# Altium schematic symbol library Schlib1.SchLib: 119 symbols
Pins are listed as number, name and electrical type; pins without a type are passive.

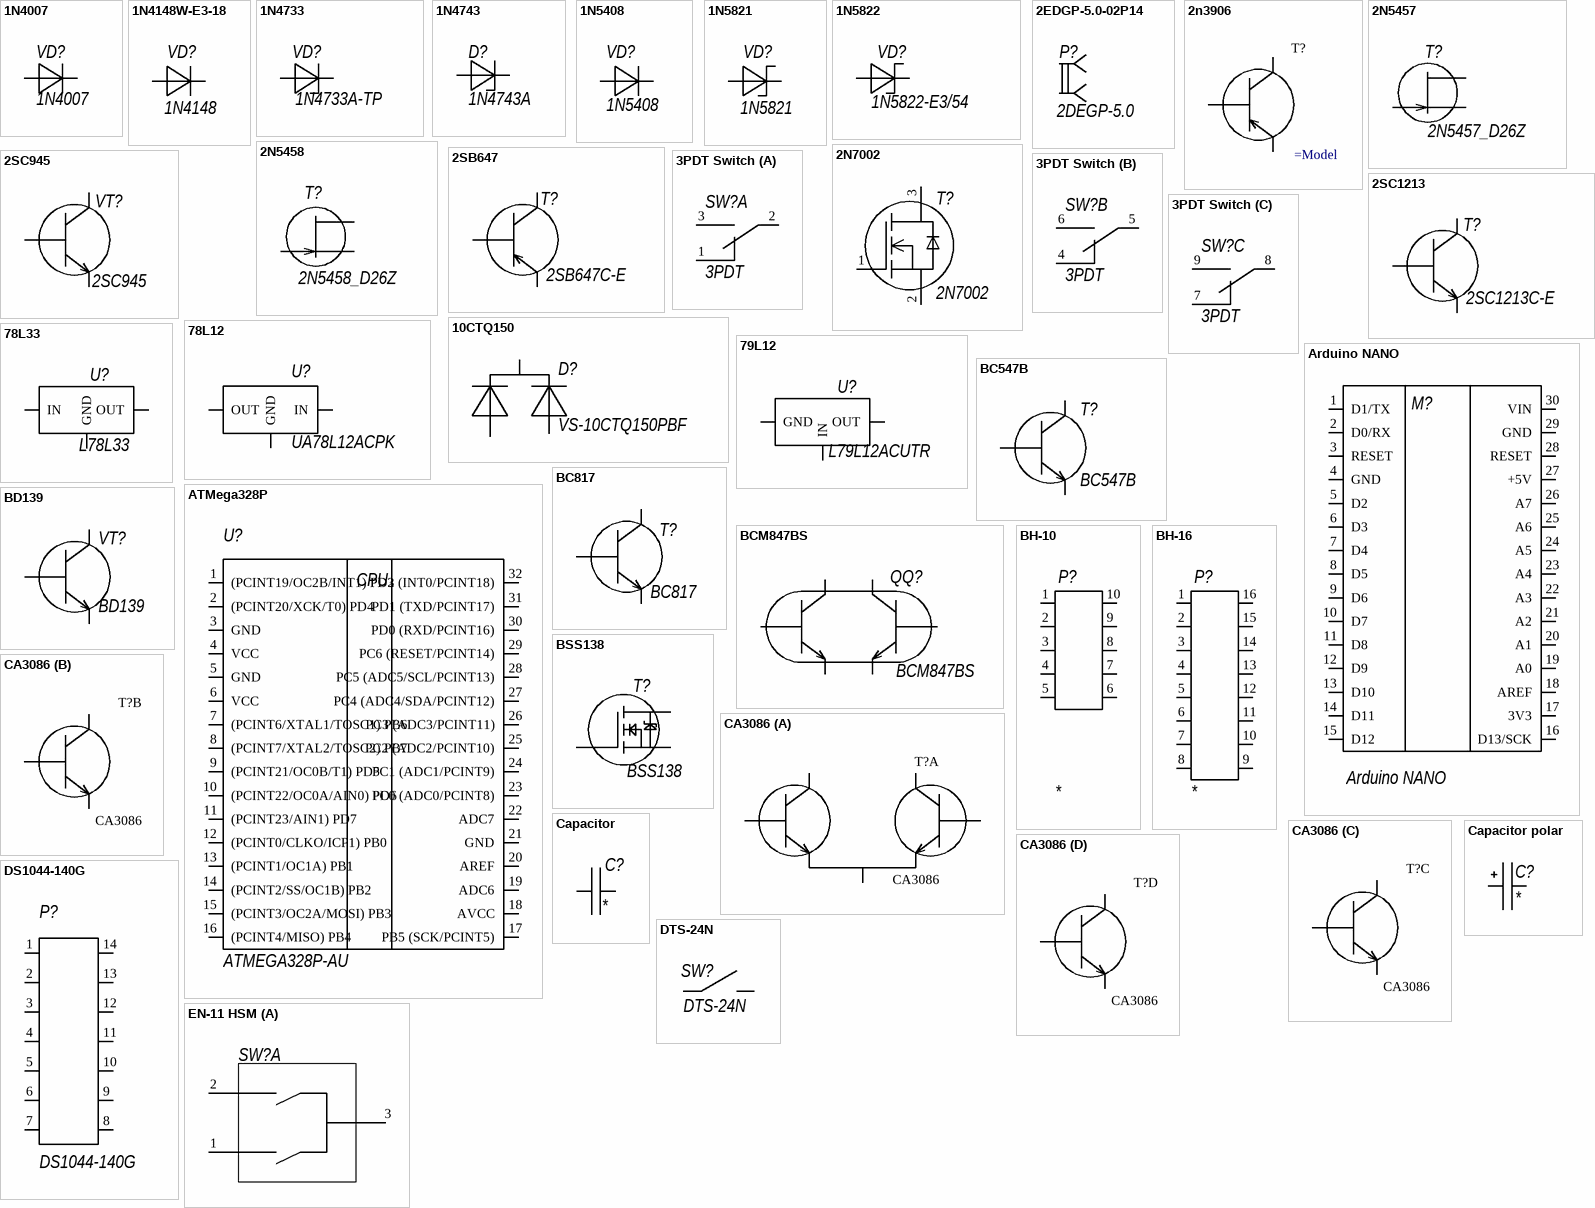
[diagram p0: symbols 1N4007 to EN-11 HSM]

## 1N4007
designator VD?
Diode Standard 1000V 1A Through Hole DO-41; Manufacturer: ON Semiconductor; Model: 1N4007; Case: DO41; HelpURL: https://www.digikey.com/product-detail/en/on-semiconductor/1N4007/1N4007FSCT-ND/965481
footprint DO-41G
pins: 1, 2

## 1N4148W-E3-18
designator VD?, comment 1N4148
DIODE GEN PURP 75V 150MA; Manufacturer: Vishay Semiconductor Diodes Division; HelpURL: https://www.digikey.com/product-detail/en/vishay-semiconductor-diodes-division/1N4148W-E3-18/1N4148W-E3-18TR-ND/3104163; Model: 1N4148; Case: SOD123
footprint SOD-123
pins: 1, 2

## 1N4733
designator VD?, comment 1N4733A-TP
Zener Diode 5.1V 1W ±5% Through Hole DO-41G; Manufacturer: Micro Commercial Co; Model: 1N4733A-TP; Case: DO41G; HelpURL: https://www.digikey.com/product-detail/en/micro-commercial-co/1N4733A-TP/1N4733A-TPTR-ND/950311
footprint DO-41G
pins: 1, 2

## 1N4743
designator D?, comment 1N4743A
Zener Diode 13V 1W ±5% Through Hole DO-41; Manufacturer: ON Semiconductor; HelpURL: https://www.digikey.com/product-detail/en/on-semiconductor/1N4743A/1N4743A-ND/977262; Case: DO41; Model: 1N4743A
footprint DO-41G
pins: 1, 2

## 1N5408
designator VD?
Diode Standard 1000V 3A Through Hole DO-201AD; Manufacturer: ON Semiconductor; HelpURL: https://www.digikey.com/product-detail/en/on-semiconductor/1N5408/1N5408FSTR-ND/976698; Model: 1N5408; Case: DO201AD
footprint DO-201
pins: 1, 2

## 1N5821
designator VD?
DIODE SCHOTTKY 30V 3A DO201AD; Manufacturer: STMicroelectronics; HelpURL: https://www.digikey.com/product-detail/en/stmicroelectronics/1N5821/1N5821ST-ND/1037330; Model: 1N5821; Case: DO201AD
footprint DO-201
pins: 1, 2

## 1N5822
designator VD?, comment 1N5822-E3/54
Diode Schottky 40V 3A Through Hole DO-201AD; Manuacturer: Vishay Semiconductor Diodes Division; HelpURL: https://www.digikey.com/product-detail/en/vishay-semiconductor-diodes-division/1N5822-E3-54/1N5822-E3-54GITR-ND/1023526; Case: 201AD; Model: 1N5822-E3/54
footprint DO-201
pins: 1, 2

## 2EDGP-5.0-02P14
designator P?, comment 2DEGP-5.0
Connector; Model: 2DEGP-5.0
footprint 2EDGP-5.0-02P14
footprint DG128-5.08-02P-14
pins: 1, 2

## 2n3906
designator T?
General purpose PNP transistor.
footprint TO-92
pins: 1 C, 2 B, 3 E

## 2N5457
designator T?, comment 2N5457_D26Z
JFET N-CH 25V 625MW TO92; Manufacturer: ON Semiconductor; Case: TO-92-3; HelpURL: https://www.digikey.com/product-detail/en/on-semiconductor/2N5457_D26Z/2N5457_D26Z-ND/979478; Model: 2N5457_D26Z
footprint TO-92
pins: 1 G "Gain", 2 S "Source", 3 D "Drain"

## 2N5458
designator T?, comment 2N5458_D26Z
JFET N-CH 25V 625MW TO92; Manufacturer: ON Semiconductor; Case: TO-92-3; Model: 2N5458_D26Z; HelpURL: https://www.digikey.com/product-detail/en/on-semiconductor/2N5458_D26Z/2N5458_D26Z-ND/979724
footprint TO-92
pins: 1 G "Gain", 2 S "Source", 3 D "Drain"

## 2N7002
designator T?
N-Channel 60V 115mA (Ta) 200mW (Ta) Surface Mount SOT-23 (TO-236AB); Manufacturer: ON Semiconductor; Case: SOT-23; HelpURL: https://www.digikey.com/product-detail/en/on-semiconductor/2N7002/2N7002NCT-ND/244664; Model: 2N7002
footprint SOT-23
pins: 1 G (power), 2 S, 3 D

## 2SB647
designator T?, comment 2SB647C-E
Bipolar (BJT) Transistor PNP; Manufacturer: Renesas Electronics America Inc.; Case: TO-92; Model: 2SB647C-E; HelpURL: https://www.digikey.com/product-detail/en/rochester-electronics-llc/2SB647C-E/2156-2SB647C-E-ND/12117509
footprint TO-92; pin to pad 1>3 2>1 3>2
pins: 1 C, 2 B, 3 E

## 2SC945
designator VT?
Bipolar (BJT) Transistor NPN; Manufacturer: Rochester Electronics, LLC; HelpURL: https://www.digikey.com/product-detail/en/rochester-electronics-llc/2SC945A-0-T-A/2156-2SC945A-0-T-A-ND/12115680; Model: 2SC945; Case: TO-92
footprint TO-92
pins: 1 C, 2 B, 3 E

## 2SC1213
designator T?, comment 2SC1213C-E
Bipolar (BJT) Transistor NPN; Manufacturer: Renesas Electronics America Inc.; HelpURL: https://www.digikey.com/product-detail/en/rochester-electronics-llc/2SC1213C-E/2156-2SC1213C-E-ND/12606633; Model: 2SC1213C-E; Case: TO-92
footprint TO-92; pin to pad 1>3 2>1 3>2
pins: 1 E, 2 B, 3 C

## 3PDT Switch
designator SW?, comment 3PDT
SWITCH PUSHBUTTON 3PDT 1A 9V; HelpURL: *; Manufacturer: *; Case: *; Model: 3PDT
footprint 3PDT
part A pins: 1, 2, 3
part B pins: 4, 5, 6
part C pins: 7, 8, 9

## 10CTQ150
designator D?, comment VS-10CTQ150PBF
Diode Array 1 Pair Common Cathode Schottky 150V 5A Through Hole TO-220-3; Manufacturer: Vishay Semiconductor Diodes Division; HelpURL: https://www.digikey.com/product-detail/en/vishay-semiconductor-diodes-division/VS-10CTQ150PBF/10CTQ150PBF-ND/811749; Model: VS-10CTQ150PBF; Case: TO220
footprint TO-220-L
footprint TO-220
pins: 1, 2, 3

## 78L12
designator U?, comment UA78L12ACPK
Linear Voltage Regulator IC Positive Fixed 1 Output 12V 100mA SOT-89-3; Manufacturer: Texas Instruments; HelpURL: https://www.digikey.com/product-detail/en/texas-instruments/UA78L12ACPK/296-11132-2-ND/382178; Model: UA78L12ACPK; Case: SOT89-3
footprint SOT89
pins: 1 IN, 2 GND, 3 OUT

## 78L33
designator U?, comment L78L33
Manufacturer: STMicroelectronics; Case: SOT-89-3; Model: L78L33; HelpURL: https://www.digikey.com/product-detail/en/stmicroelectronics/L78L33ACUTR/497-1200-2-ND/585724
footprint SOT89
pins: 1 IN, 2 GND, 3 OUT

## 79L12
designator U?, comment L79L12ACUTR
Linear Voltage Regulator IC Negative Fixed 1 Output -12V 100mA SOT-89-3; Manufacturer: STMicroelectronics; HelpURL: https://www.digikey.com/product-detail/en/stmicroelectronics/L79L12ACUTR/497-7301-2-ND/1852231; Case: SOT89-3; Model: L79L12ACUTR
footprint SOT89
pins: 1 OUT, 2 IN, 3 GND

## Arduino NANO
designator M?
Model: Arduino NANO
footprint ARDUINO NANO
pins: 1 D1/TX, 2 D0/RX, 3 RESET, 4 GND, 5 D2, 6 D3, 7 D4, 8 D5, 9 D6, 10 D7, 11 D8, 12 D9, 13 D10, 14 D11, 15 D12, 16 D13/SCK, 17 3V3, 18 AREF, 19 A0, 20 A1, 21 A2, 22 A3, 23 A4, 24 A5, 25 A6, 26 A7, 27 +5V, 28 RESET, 29 GND, 30 VIN

## ATMega328P
designator U?, comment ATMEGA328P-AU
IC MCU 8BIT 32KB FLASH 32TQFP; Manufacturer: Microchip Technology; Case: 32-TQFP; HelpURL: https://www.digikey.com/product-detail/en/microchip-technology/ATMEGA328P-AU/ATMEGA328P-AU-ND/1832260; Model: ATMEGA328P-AU
footprint 32-TQFP
pins: 1 (PCINT19/OC2B/INT1) PD3, 2 (PCINT20/XCK/T0) PD4, 3 GND, 4 VCC, 5 GND, 6 VCC, 7 (PCINT6/XTAL1/TOSC1) PB6, 8 (PCINT7/XTAL2/TOSC2) PB7, 9 (PCINT21/OC0B/T1) PD5, 10 (PCINT22/OC0A/AIN0) PD6, 11 (PCINT23/AIN1) PD7, 12 (PCINT0/CLKO/ICP1) PB0, 13 (PCINT1/OC1A) PB1, 14 (PCINT2/SS/OC1B) PB2, 15 (PCINT3/OC2A/MOSI) PB3, 16 (PCINT4/MISO) PB4, 17 PB5 (SCK/PCINT5), 18 AVCC, 19 ADC6, 20 AREF, 21 GND, 22 ADC7, 23 PC0 (ADC0/PCINT8), 24 PC1 (ADC1/PCINT9), 25 PC2 (ADC2/PCINT10), 26 PC3 (ADC3/PCINT11), 27 PC4 (ADC4/SDA/PCINT12), 28 PC5 (ADC5/SCL/PCINT13), 29 PC6 (RESET/PCINT14), 30 PD0 (RXD/PCINT16), 31 PD1 (TXD/PCINT17), 32 PD2 (INT0/PCINT18)
text: CPU

## BC547B
designator T?
Manufacturer: ON Semiconductor; Model: BC547B; HelpURL: https://www.digikey.com/product-detail/en/on-semiconductor/BC547B/BC547BFS-ND/976366; Case: TO-92
footprint TO-92
pins: 1 E, 2 B, 3 C

## BC817
designator T?
Bipolar (BJT) Transistor NPN 45V 500mA 100MHz 300mW Surface Mount SOT-23-3 (TO-236); Manufacturer: ON Semiconductor; Model: BC817; Case: SOT23; HelpURL: https://www.digikey.com/product-detail/en/on-semiconductor/BC817-25LT1G/BC817-25LT1GOSCT-ND/917829
footprint SOT-23; pin to pad B>1 C>3 E>2
pins: B, C, E

## BCM847BS
designator QQ?
Bipolar (BJT) Transistor Array 2 NPN (Dual) Matched Pair 45V 100mA 250MHz 300mW Surface Mount 6-TSSOP; Manufacturer: Nexperia USA Inc.; Model: BCM847BS; Case: 6TSSOP; HelpURL: https://www.digikey.com/product-detail/en/nexperia-usa-inc/BCM847BS-135/1727-5456-2-ND/1232376
footprint 6TSSOP
pins: 1, 2, 3, 4, 5, 6

## BD139
designator VT?
Bipolar (BJT) Transistor NPN 80V 1.5A 1.25W Through Hole SOT-32-3; Manufacturer: STMicroelectronics; HelpURL: https://www.digikey.com/product-detail/en/stmicroelectronics/BD139/497-6656-5-ND/1037682; Model: BD139; Case: SOT-32
footprint TO-126 (SOT-32); pin to pad 1>2 2>3 3>1
pins: 1 C, 2 B, 3 E

## BH-10
designator P?
Model: BH-16; HelpURL: *; Manufacturer: *
footprint BH-10
pins: 1, 2, 3, 4, 5, 6, 7, 8, 9, 10

## BH-16
designator P?
Model: BH-16; HelpURL: *; Manufacturer: *
footprint BH-16
pins: 1, 2, 3, 4, 5, 6, 7, 8, 9, 10, 11, 12, 13, 14, 15, 16

## BSS138
designator T?
N-Channel 50V 220mA (Ta) 360mW (Ta) Surface Mount SOT-23-3; Manufacturer: ON Semiconductor; Case: SOT-23; HelpURL: https://www.digikey.com/product-detail/en/on-semiconductor/BSS138/BSS138CT-ND/244294; Model: BSS138
footprint SOT-23; pin to pad D>3 G>1 S>2
pins: D, G, S

## CA3086
designator T?
General Purpose NPN Transistor Array
footprint DIP-14
part A pins: 1 C, 2 B, 3, 4 B, 5 C
part B pins: 6 B, 7 E, 8 C
part C pins: 9 B, 10 E, 11 C
part D pins: 12 B, 13 E, 14 C

## Capacitor
designator C?
Model: *; Case: *; HelpURL: *; Manufacturer: *; Value: *
footprint CAP DISK 5mm
footprint CAP FILM 15mm
footprint CAP FILM 5MM
footprint CAP FILM 10mm
footprint C1206
footprint CAP FILM 2.5mm
footprint C0805
footprint CAP Y DISK 10mm
footprint CAP FILM X2 15mm
footprint CAP FILM X2 15mm 2
footprint CAP FILM 22.5
pins: 1, 2

## Capacitor polar
designator C?
Case: *; HelpURL: *; MAnufacturer: *; Model: *; Value: *
footprint CAP POLAR AL 2.5mm
footprint cap polar al hor 2.5mm
footprint CAP POLAR SMD 4.0
footprint CAP POLAR SMD 6.3
footprint CAP POLAR SMD 8
footprint CAP POLAR AL 5MM
footprint Tantalum C
footprint CAP POLAR AL 18x25; pin to pad 2>1
pins: 1, 2

## DS1044-140G
designator P?
Model: DS1044-140G
footprint ZIF14
pins: 1, 2, 3, 4, 5, 6, 7, 8, 9, 10, 11, 12, 13, 14

## DTS-24N
designator SW?
12 x 12mm size pcb mounting tactile switche; Model: DTS-24N
footprint DTS-24N; pin to pad 1>1+2 2>3+4
pins: 1, 2

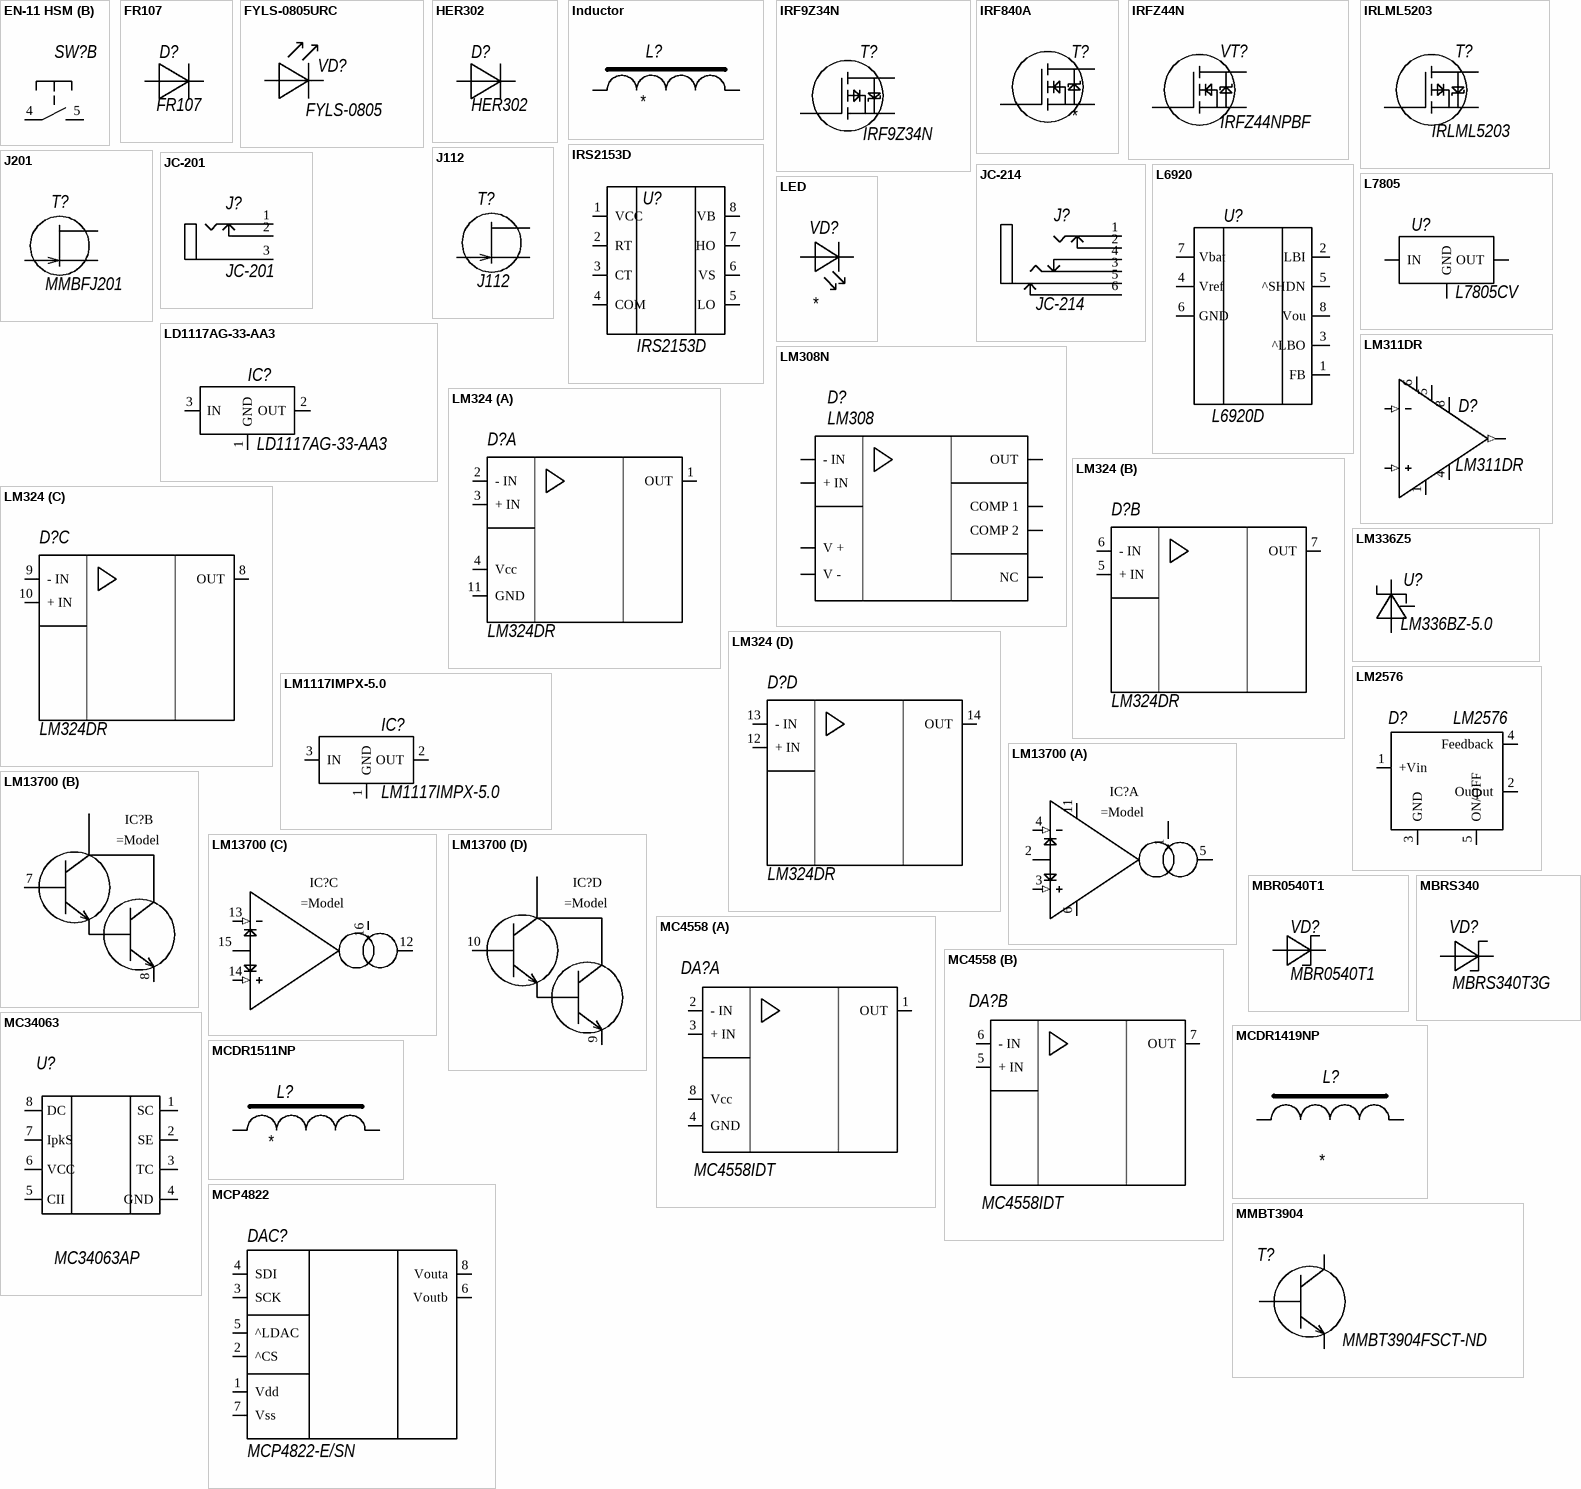
[diagram p1: symbols EN-11 HSM to MMBT3904]

## EN-11 HSM
designator SW?  (value not drawn)
Rotary Encoder; Manufacturer: TT Electronics/BI; Model: EN-11HSM7E; HelpURL: https://www.digikey.com/en/product-highlight/t/tt-electronics-bi/model-en11-encoder
footprint EN-11 HSM
part A pins: 1 A, 2 C, 3 B
part B pins: 4, 5

## FR107
designator D?
Diode Standard 1000V 1A Through Hole DO-41; Manufacturer: Micro Commercial Co; HelpURL: https://www.digikey.com/product-detail/en/micro-commercial-co/FR107GP-TP/FR107GP-TP-ND/8018604; Case: DO-41; Model: FR107
footprint DO-41G
pins: 1, 2

## FYLS-0805URC
designator VD?, comment FYLS-0805
LED SMD; Model: FYLS-0805
footprint LED_SMD-0805
pins: 1, 2

## HER302
designator D?
Diode Standard 100V 3A Through Hole DO-201AD; Manufacturer: Taiwan Semiconductor Corporation; HelpURL: https://www.digikey.com/product-detail/en/taiwan-semiconductor-corporation/HER302G-R0G/HER302GR0G-ND/7366823; Case: DO201AD; Model: HER302
footprint DO-201
footprint do-201-vert
footprint DO-201-vert-inv
pins: 1, 2

## Inductor
designator L?
Value: *
footprint CDRH127
footprint CDRH104
footprint MCD855C
pins: 1, 2

## IRF9Z34N
designator T?
P-Channel 55V 19A (Tc) 68W (Tc) Through Hole TO-220AB; Manufacturer: Infineon Technologies; HelpURL: https://www.digikey.com/product-detail/en/infineon-technologies/IRF9Z34NPBF/IRF9Z34NPBF-ND/811960; Case: TO-220AB; Model: IRF9Z34N
footprint TO-220-L; pin to pad D>2 G>1 S>3
pins: D, G, S

## IRF840A
designator T?
N-Channel 500V 8A (Tc) 125W (Tc) Through Hole TO-220AB; Manufacturer: Vishay Siliconix; Model: IRF840A; HelpURL: https://www.digikey.com/product-detail/en/vishay-siliconix/IRF840A/IRF840A-ND/352313; Case: TO-220AB
footprint TO-220
footprint TO-220-L
pins: 1 G, 2 D, 3 S

## IRFZ44N
designator VT?, comment IRFZ44NPBF
N-Channel 55V 49A (Tc) 94W (Tc) Through Hole TO-220AB; Manufacturer: Infineon Technologies; HelpURL: https://www.digikey.com/product-detail/en/infineon-technologies/IRFZ44NPBF/IRFZ44NPBF-ND/811772; Model: IRFZ44NPBF; Case: TO-220AB
footprint TO-220-L
pins: 1 G, 2 D, 3 S

## IRLML5203
designator T?
P-Channel 30V 3A (Ta) 1.25W (Ta) Surface Mount Micro3™/SOT-23; Manufacturer: Infineon Technologies; Model: IRLML5203; Case: SOT-23; HelpURL: https://www.digikey.com/product-detail/en/infineon-technologies/IRLML5203/IRLML5203-ND/359267
footprint SOT-23; pin to pad D>3 G>1 S>2
pins: D, G, S

## IRS2153D
designator U?
Half-Bridge Gate Driver IC RC Input Circuit 8-PDIP; Manufacturer: Infineon Technologies; HelpURL: https://www.digikey.com/product-detail/en/infineon-technologies/IRS2153DPBF/IRS2153DPBF-ND/1928046; Model: IRS2153D; Case: 8DIP
footprint DIP-8
pins: 1 VCC, 2 RT, 3 CT, 4 COM, 5 LO, 6 VS, 7 HO, 8 VB

## J112
designator T?
Manufacturer: ON Semiconductor; HelpURL: https://www.digikey.com/product-detail/en/on-semiconductor/J112/J112FS-ND/1048969; Case: TO92; Model: J112
footprint TO-92
pins: 1 G "Gain", 2 S "Source", 3 D "Drain"

## J201
designator T?, comment MMBFJ201
Manufacturer: ON Semiconductor; Model: MMBFJ201; HelpURL: https://www.digikey.com/product-detail/en/on-semiconductor/MMBFJ201/MMBFJ201TR-ND/1049584; Case: SOT23
footprint SOT-23
pins: 1 D "Drain", 2 S "Source", 3 G "Gain"

## JC-201
designator J?
Model: JC-201
footprint JC-201
pins: 1, 2, 3

## JC-214
designator J?
Model: JC-214
footprint JC-214
pins: 1, 2, 3, 4, 5, 6

## L6920
designator U?, comment L6920D
Boost Switching Regulator IC Positive Adjustable (Fixed) 1.8V (3.3V, 5V) 1 Output 800mA (Switch) 8-TSSOP (0.173", 4.40mm Width); Manufacturer: STMicroelectronics; HelpURL: https://www.digikey.com/product-detail/en/stmicroelectronics/L6920D/497-19603-ND/1663412; Case: 8TSSOP; Model: L6920D
footprint MSOP8
pins: 1 FB, 2 LBI, 3 ^LBO, 4 Vref, 5 ^SHDN, 6 GND, 7 Vbat, 8 Vou

## L7805
designator U?, comment L7805CV
Linear Voltage Regulator IC  1 Output  1.5A TO-220; Manufacturer: STMicroelectronics; HelpURL: https://www.digikey.com/product-detail/en/stmicroelectronics/L7805CV-DG/497-12404-ND/2832888; Model: L7805CV; Case: TO220
footprint TO-220-L
pins: 1 IN, 2 GND, 3 OUT

## LD1117AG-33-AA3
designator IC?
IC REG LINEAR 3.3V 800MA SOT223; Manufacturer: STMicroelectronics; Model: LD1117AG-33-AA3; Case: SOT223; HelpURL: https://www.digikey.com/product-detail/en/stmicroelectronics/LD1117S33CTR/497-1241-2-ND/585765
footprint SOT-223
pins: 1 GND, 2 OUT, 3 IN

## LED
designator VD?
Model: *
footprint LED-5mm
pins: 1, 2

## LM308N
designator D?, comment LM308
Case: *; HelpURL: *; Manufaturer: *; Model: LM308
footprint DIP-8
pins: 1 COMP 1, 2 - IN, 3 + IN, 4 V -, 5 NC, 6 OUT, 7 V +, 8 COMP 2

## LM311DR
designator D?
IC DIFF COMP STROBE 8-SOIC; Manufacturer: Texas Instruments; Model: LM311DR; Case: 8-SOIC; HelpURL: https://www.digikey.com/product-detail/en/texas-instruments/LM311DR/296-1388-2-ND/381217
footprint SOIC-8
footprint DIP-8
pins: 1 GND, 2 IN+ (in), 3 IN- (in), 4 Vcc- (power), 5 BALANCE, 6 B/S, 7 OUT (out), 8 Vcc+ (power)

## LM324
designator D?, comment LM324DR
General Purpose Amplifier 4 Circuit  14-SOIC; Manufacturer: Texas Instruments; HelpURL: https://www.digikey.com/product-detail/en/texas-instruments/LM324DR/296-14597-2-ND/555719; Case: 14SOIC; Model: LM324DR
footprint SO-14
part A pins: 1 OUT, 2 - IN, 3 + IN, 4 Vcc, 11 GND
part B pins: 5 + IN, 6 - IN, 7 OUT
part C pins: 8 OUT, 9 - IN, 10 + IN
part D pins: 12 + IN, 13 - IN, 14 OUT

## LM336Z5
designator U?, comment LM336BZ-5.0
Shunt Voltage Reference IC ±2% TO-92-3; Manufacturer: Texas Instruments; Model: LM336BZ-5.0; HelpURL: https://www.digikey.com/product-detail/en/texas-instruments/LM336BZ-5-0-NOPB/LM336BZ-5-0-NOPB-ND/148167; Case: TO92-3
footprint TO-92 square silksreen
pins: 1, 2, 3

## LM1117IMPX-5.0
designator IC?
IC REG LINEAR 5V 800MA SOT223-4; Manufacturer: Texas Instruments; Case: SOT-223-4; HelpUIRL: https://www.digikey.com/product-detail/en/texas-instruments/LM1117MPX-5-0-NOPB/LM1117MPX-5-0-NOPBTR-ND/366734; Model: LM1117IMPX-5.0
footprint SOT-223
pins: 1 GND, 2 OUT, 3 IN

## LM2576
designator D?
Buck Switching Regulator IC Positive Adjustable 1.23V 1 Output 3A TO-220-5; Manufacturer: Texas Instruments; HelpURL: https://www.digikey.com/product-detail/en/texas-instruments/LM2576T-ADJ-NOPB/LM2576T-ADJNS-NOPB-ND/148128; Case: TO-220-5; Model: LM2576
footprint TO-220-5
pins: 1 +Vin, 2 Output, 3 GND, 4 Feedback, 5 ON/OFF

## LM13700
designator IC?
Dual Operational Transconductance Amplifiers / With Linearizing Diodes and Buffers
footprint DIP-16
part A pins: 1 Amp bias input (in), 2 Diode bias, 3 IN+ (in), 4 IN- (in), 5 OUT (out), 6 Vcc- (power), 11 Vcc+ (power)
part B pins: 7 Buffer input, 8 Buffer output
part C pins: 12 OUT (out), 13 IN- (in), 14 IN+ (in), 15 Diode bias, 16 Amp bias input (in)
part D pins: 9 Buffer OUT, 10 Buffer IN

## MBR0540T1
designator VD?
Diode Schottky 40V 500mA Surface Mount SOD-123; Manufacturer: ON Semiconductor; Case: SOD-123; HelpURL: https://www.digikey.com/product-detail/en/on-semiconductor/MBR0540T1G/MBR0540T1GOSTR-ND/918576; Model: MBR0540T1
footprint SOD-123
pins: 1, 2

## MBRS340
designator VD?, comment MBRS340T3G
Diode Schottky 40V 4A Surface Mount SMC; Manufacturer: ON Semiconductor; HelpURL: https://www.digikey.com/product-detail/en/on-semiconductor/MBRS340T3G/MBRS340T3GOSTR-ND/918645; Model: MBRS340T3G; Case: SMC (DO214AB)
footprint SMC (DO214AB)
pins: 1, 2

## MC4558
designator DA?, comment MC4558IDT
General Purpose Amplifier 2 Circuit  8-SO; Manufacturer: STMicroelectronics; Model: MC4558IDT; Case: SO8; HelpURL: https://www.digikey.com/product-detail/en/stmicroelectronics/MC4558IDT/497-1961-2-ND/599382
footprint SOIC-8
part A pins: 1 OUT, 2 - IN, 3 + IN, 4 GND, 8 Vcc
part B pins: 5 + IN, 6 - IN, 7 OUT

## MC34063
designator U?, comment MC34063AP
Manufacturer: Texas Instruments; HelpURL: https://www.digikey.com/product-detail/en/texas-instruments/MC34063AP/296-17766-5-ND/717432; Model: MC34063AP; Case: 8-DIP
footprint DIP-8
footprint SO-8
pins: 1 SC, 2 SE, 3 TC, 4 GND, 5 CII, 6 VCC, 7 IpkS, 8 DC

## MCDR1419NP
designator L?
Inductor; Value: *
footprint MCDR1419NP
pins: 1, 2

## MCDR1511NP
designator L?
Inductor; Value: 100uH
footprint MCDR1511NP
pins: 1, 2

## MCP4822
designator DAC?, comment MCP4822-E/SN
12 Bit Digital to Analog Converter 2 8-SOIC; Manufacturer: Microchip Technology; HelpURL: https://www.digikey.com/product-detail/en/microchip-technology/MCP4822-E-SN/MCP4822-E-SN-ND/951466; Case: 8SOIC; Model: MCP4822-E/SN
footprint SOIC-8
pins: 1 Vdd, 2 ^CS, 3 SCK, 4 SDI, 5 ^LDAC, 6 Voutb, 7 Vss, 8 Vouta

## MMBT3904
designator T?, comment MMBT3904FSCT-ND
Bipolar (BJT) Transistor NPN 40V 200mA 300MHz 350mW Surface Mount SOT-23-3; Manufacturer: ON Semiconductor; Model: MMBT3904FSCT-ND; Case: SOT-23-3; HelpURL: https://www.digikey.com/product-detail/en/on-semiconductor/MMBT3904/MMBT3904FSCT-ND/458971
footprint SOT-23
pins: 1, 2, 3

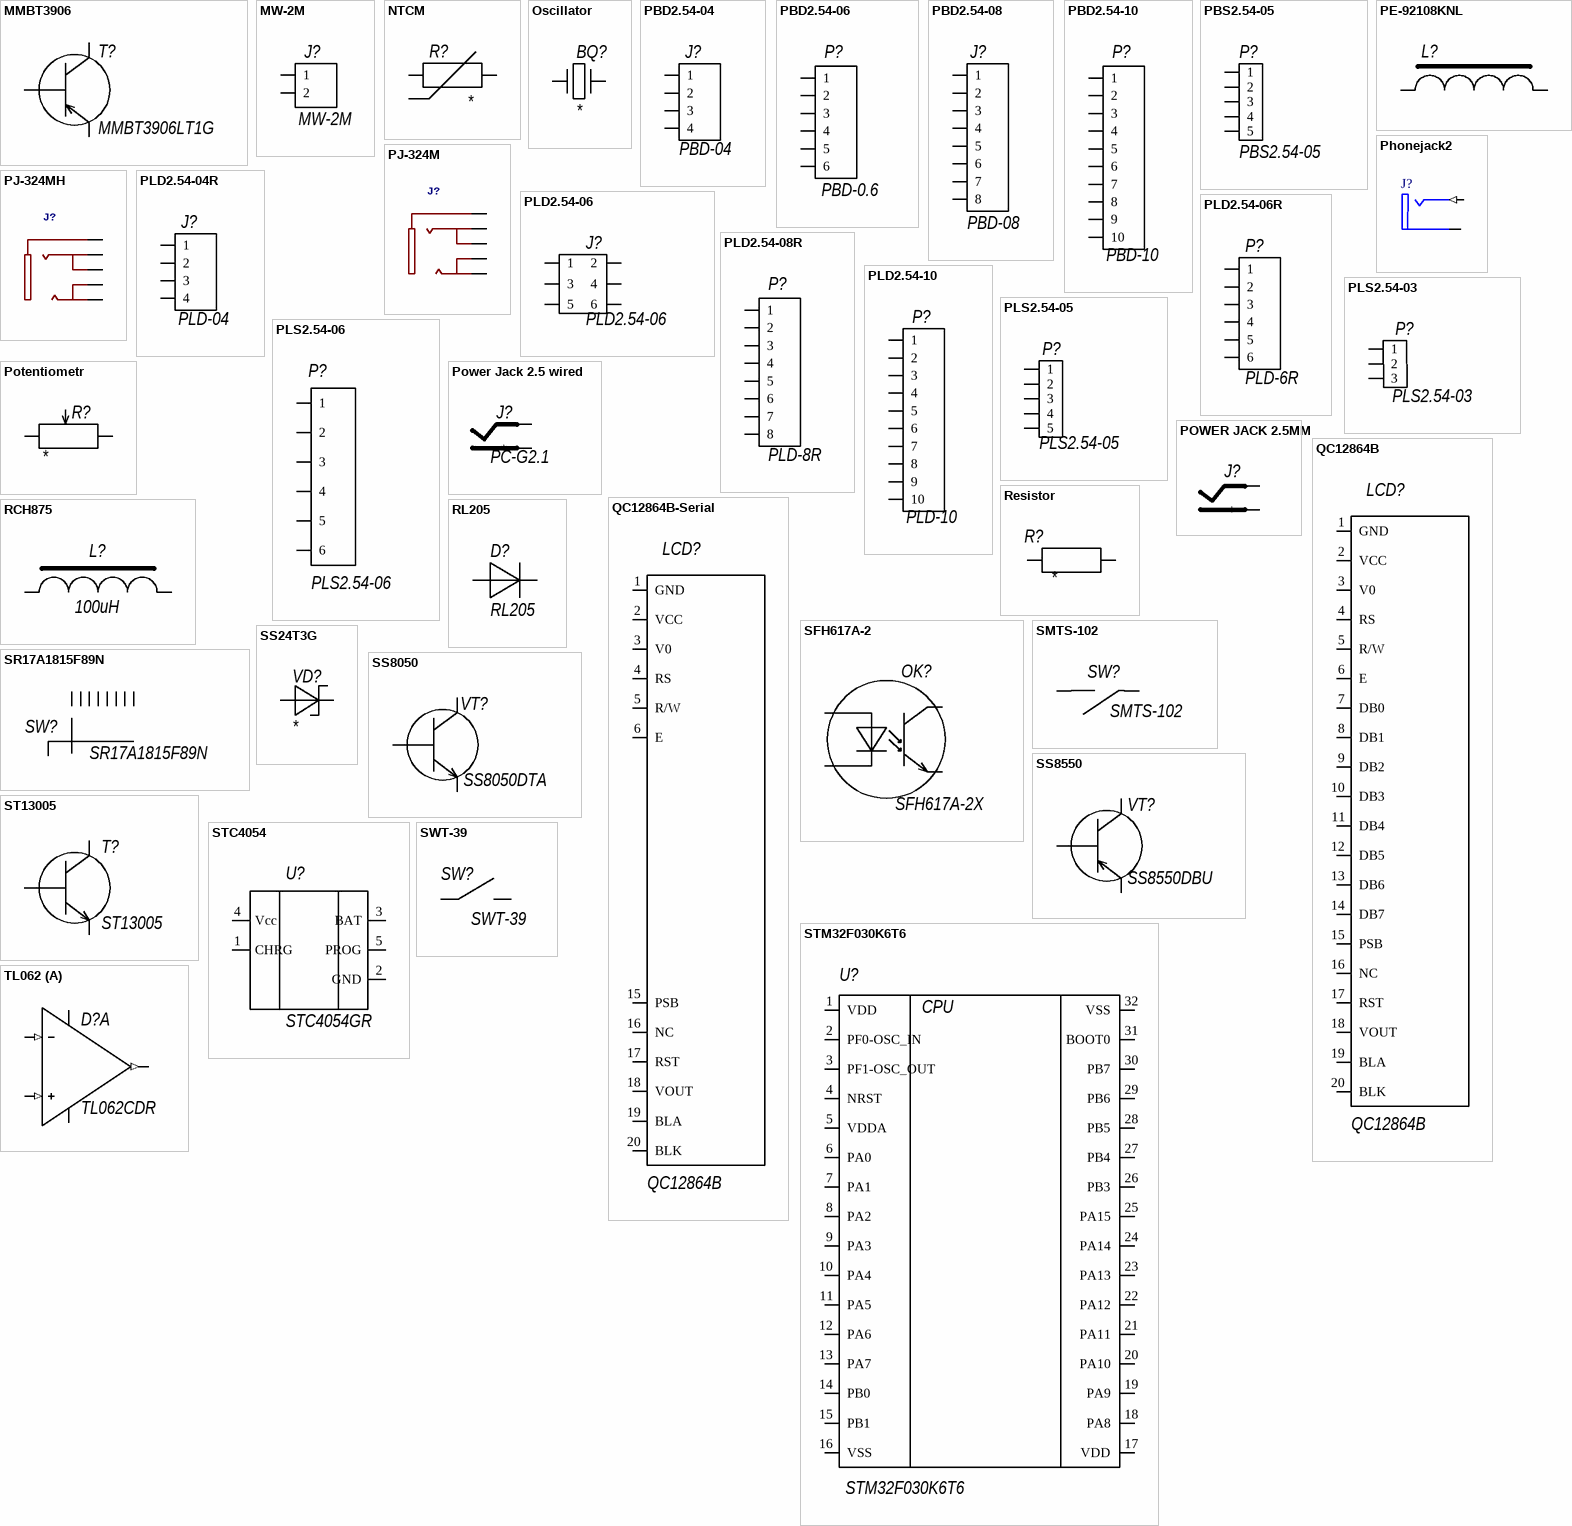
[diagram p2: symbols MMBT3906 to TL062]

## MMBT3906
designator T?, comment MMBT3906LT1G
Bipolar (BJT) Transistor PNP 40V 200mA 250MHz 300mW Surface Mount SOT-23-3 (TO-236); Manufacturer: ON Semiconductor; HelpURL: https://www.digikey.com/product-detail/en/on-semiconductor/MMBT3906LT1G/MMBT3906LT1GOSTR-ND/919605; Case: SOT23; Model: MMBT3906LT1G
footprint SOT-23
pins: 1, 2, 3

## MW-2M
designator J?
Model: MW-2M
footprint MW-2M
pins: 1, 2

## NTCM
designator R?
Thermistor; Value: *
footprint 2-PAD
pins: 1, 2

## Oscillator
designator BQ?
Frequency: *
footprint Quartz 5 mm
footprint QSMD12.3x4.5x4.2
pins: 1, 2

## PBD2.54-04
designator J?, comment PBD-04
Model: PBD-04
footprint PBD2.54-04
pins: 1, 2, 3, 4

## PBD2.54-06
designator P?, comment PBD-0.6
Model: PBD-0.6
footprint PBD2.54-06
pins: 1, 2, 3, 4, 5, 6

## PBD2.54-08
designator J?, comment PBD-08
Model: PBD-08
footprint PBD2.54-08
pins: 1, 2, 3, 4, 5, 6, 7, 8

## PBD2.54-10
designator P?, comment PBD-10
Model: PBD-10
footprint PBD2.54-10
pins: 1, 2, 3, 4, 5, 6, 7, 8, 9, 10

## PBS2.54-05
designator P?
Model: PBS2.54-05
footprint PBS2.54-05
pins: 1, 2, 3, 4, 5

## PE-92108KNL
designator L?  (value not drawn)
Inductor 100uH; Model: PE-92108KNL
footprint KM-4.0
pins: 1, 2

## Phonejack2
designator J?
Jack Socket, 1/4" [6.5mm], Thru-Hole, Vertical, 2-Conductor Open Circuit; PackageDocument: 2003; PCB_Layout: Complies with manufacturer's recommendation.; DrillAndSlotSize: Corresponds to nominal value.; LatestRevisionDate: 15-Jul-2004; LatestRevisionNote: Component Replaced.; DatasheetDocument: 2003; PackageReference: S1VS_SNS; Publisher: Altium Limited; ComponentLink1Description: Manufacturer Link; ComponentLink1URL: http://www.cliffuk.co.uk/
signal-integrity model JACK Socket
footprint PJ301M
pins: 1 T (in) "Tip", 5 S (power) "Sleeve (Ground)"

## PJ-324M
designator J?
GateName_1: G$1; SymbolName_1: JW-PJ-307-5; DeviceSetName: PJ-324M; MF: Wenzhou QingPu Electronics Co.Ltd; MP: PJ324M; LibraryName: PJ-324M; Package: PJ-324M; Package: Package Analog Devices; Price: None; Availability: Unavailable
footprint PJ-324M
pins: 1, 2, 3, 4, 5

## PJ-324MH
designator J?
GateName_1: G$1; SymbolName_1: JW-PJ-307-5; DeviceName: H; DeviceSetName: PJ-324M; MF: Wenzhou QingPu Electronics Co.Ltd; MP: PJ324M; LibraryName: PJ-324M; Package: PJ-324MH; Package: Package Analog Devices; Price: None; Availability: Unavailable
footprint PJ-324MH
pins: 1, 2, 3, 4, 5

## PLD2.54-04R
designator J?, comment PLD-04
Model: PLD-04
footprint PLD2.54-04R
pins: 1, 2, 3, 4

## PLD2.54-06
designator J?
Model: PLD2.54-06
footprint PLD2.54-06
pins: 1, 2, 3, 4, 5, 6

## PLD2.54-06R
designator P?, comment PLD-6R
Model: PLD-6R; Manufacturer: *
footprint PLD2.54-06R
pins: 1, 2, 3, 4, 5, 6

## PLD2.54-08R
designator P?, comment PLD-8R
Manufacturer: *; Model: PLD-8R
footprint PLD2.54-08R
pins: 1, 2, 3, 4, 5, 6, 7, 8

## PLD2.54-10
designator P?, comment PLD-10
Model: PLD-10
footprint PLD2.54-10 (Footprint not found)
pins: 1, 2, 3, 4, 5, 6, 7, 8, 9, 10

## PLS2.54-03
designator P?
Model: PLS2.54-03
footprint PLS2.54-03
pins: 1, 2, 3

## PLS2.54-05
designator P?
Model: PLS2.54-05
footprint PLS2.54-05
pins: 1, 2, 3, 4, 5

## PLS2.54-06
designator P?
Model: PLS2.54-06
footprint PLS2.54-06
pins: 1, 2, 3, 4, 5, 6

## Potentiometr
designator R?
Case: *; HelpURL: *; Manufacturer: *; Model: *; Value: *
footprint potentiometr hor
footprint T93YA
footprint Potentiometr Normal
footprint potentiometr ca9v
footprint WF-3
signal-integrity model Potentiometer (Model Description)
footprint Rv09*CF-40 (Potentiometer)
pins: 1, 2, 3

## Power Jack 2.5 wired
designator J?, comment PC-G2.1
Model: PC-G2.1
footprint Power Jack 2.5 wired
pins: 1 +, 2 -

## POWER JACK 2.5MM
designator J?  (value not drawn)
footprint POWER JACK 2.5MM
pins: 1 +, 2 -

## QC12864B
designator LCD?
Model: QC12864B
footprint LCD-TFT-12864
pins: 1 GND, 2 VCC, 3 V0, 4 RS, 5 R/W, 6 E, 7 DB0, 8 DB1, 9 DB2, 10 DB3, 11 DB4, 12 DB5, 13 DB6, 14 DB7, 15 PSB, 16 NC, 17 RST, 18 VOUT, 19 BLA, 20 BLK

## QC12864B-Serial
designator LCD?, comment QC12864B
Model: QC12864B
footprint LCD-TFT-12864 - serial
pins: 1 GND, 2 VCC, 3 V0, 4 RS, 5 R/W, 6 E, 15 PSB, 16 NC, 17 RST, 18 VOUT, 19 BLA, 20 BLK

## RCH875
designator L?, comment 100uH
Inductor; Value: 100uH
footprint RCH875
pins: 1, 2

## Resistor
designator R?
Model: *; Manufacturer: *; HelpURL: *; Case: *; Value: *
footprint R1206
footprint R0805
footprint R-0.25
footprint R-0.125
footprint R0603
footprint R-1.0
footprint R-2.0
pins: 1, 2

## RL205
designator D?
DIODE GEN PURP 600V 2A DO15; Manufacturer: Diodes Incorporated; HelpURL: https://www.digikey.com/product-detail/en/diodes-incorporated/RL205-T/RL205DITR-ND/142836; Model: RL205; Case: DO15
footprint DO-15
pins: 1, 2

## SFH617A-2
designator OK?, comment SFH617A-2X
Optoisolator Transistor Output 5300Vrms 1 Channel 4-DIP; Vanucafturer: Isocom Components 2004 LTD; HelpURL: https://www.digikey.com/product-detail/en/isocom-components-2004-ltd/SFH617A-2X/SFH617A-2X-ND/5037031; Case: 4DIP; Model: SFH617A-2X
footprint DIP-4
pins: 1, 2, 3 E, 4 C

## SMTS-102
designator SW?
Model: SMTS-102
footprint 2-PAD
pins: 1, 2

## SR17A1815F89N
designator SW?
Switch: rotary Pos: 8 0.3A/16VDC Poles number: 1 30° -20-70°C NINI; Model: SR17A1815F89N
footprint SR17A
pins: 1, 2, 3, 4, 5, 6, 7, 8, 9

## SS24T3G
designator VD?
Diode Schottky 40V 2A Surface Mount SMB; Manufacturer: ON Semiconductor; Model: SS24T3G; Case: SMB; HelpURL: https://www.digikey.com/product-detail/en/on-semiconductor/SS24T3G/SS24T3GOSCT-ND/964638
footprint SMB
pins: 1, 2

## SS8050
designator VT?, comment SS8050DTA
Bipolar (BJT) Transistor NPN 25V 1.5A 100MHz 1W Through Hole TO-92-3; Manufacturer: ON Semiconductor; HelpURL: https://www.digikey.com/product-detail/en/micro-commercial-co/MMSS8050-L-TP/MMSS8050-L-TPMSTR-ND/2827197; Model: SS8050DTA; Case: SOT-23, TO-92
footprint SOT-23; pin to pad 1>3 2>1 3>2
footprint TO-92 square silksreen
pins: 1 C, 2 B, 3 E

## SS8550
designator VT?, comment SS8550DBU
Bipolar (BJT) Transistor PNP 25V 1.5A 200MHz 1W Through Hole TO-92-3; Manufacturer: ON Semiconductor; HelpURL: https://www.digikey.com/product-detail/en/on-semiconductor/SS8550DBU/SS8550DBU-ND/1047327; Model: SS8550DBU; Case: TO-92
footprint TO-92
pins: 1 C, 2 B, 3 E

## ST13005
designator T?
Bipolar (BJT) Transistor NPN 400V 4A 75W Through Hole TO-220AB; Manufacturer: STMicroelectronics; HelpURL: https://www.digikey.com/product-detail/en/stmicroelectronics/ST13005/497-3149-5-ND/654473; Case: TO-220; Model: ST13005
footprint TO-220
pins: 1 B, 2 C, 3 E

## STC4054
designator U?, comment STC4054GR
Charger IC Lithium-Ion TSOT-23-5; Manufacturer: STMicroelectronics; Case: TSOT-23-5; HelpURL: https://www.digikey.com/product-detail/en/stmicroelectronics/STC4054GR/497-5809-2-ND/1506421; Model: STC4054GR
footprint TSOT-23-5
pins: 1 CHRG, 2 GND, 3 BAT, 4 Vcc, 5 PROG

## STM32F030K6T6
designator U?
IC MCU 32BIT 32KB FLASH 32LQFP; Manufacturer: STMicroelectronics; Case: 32-TQFP; HelpURL: https://www.digikey.com/product-detail/en/stmicroelectronics/STM32F030K6T6/497-14046-ND/4494296; Model: STM32F030K6T6
footprint 32-TQFP
pins: 1 VDD (power), 2 PF0-OSC_IN (io), 3 PF1-OSC_OUT (io), 4 NRST (io), 5 VDDA (power), 6 PA0 (io), 7 PA1 (io), 8 PA2 (io), 9 PA3 (io), 10 PA4 (io), 11 PA5 (io), 12 PA6 (io), 13 PA7 (io), 14 PB0 (io), 15 PB1 (io), 16 VSS (power), 17 VDD (power), 18 PA8 (io), 19 PA9 (io), 20 PA10 (io), 21 PA11 (io), 22 PA12 (io), 23 PA13 (io), 24 PA14 (io), 25 PA15 (io), 26 PB3 (io), 27 PB4 (io), 28 PB5 (io), 29 PB6 (io), 30 PB7 (io), 31 BOOT0 (io), 32 VSS (power)
text: CPU

## SWT-39
designator SW?
pcb mounting tactile switch; Model: SWT-39
footprint SWT-39
pins: 1, 2

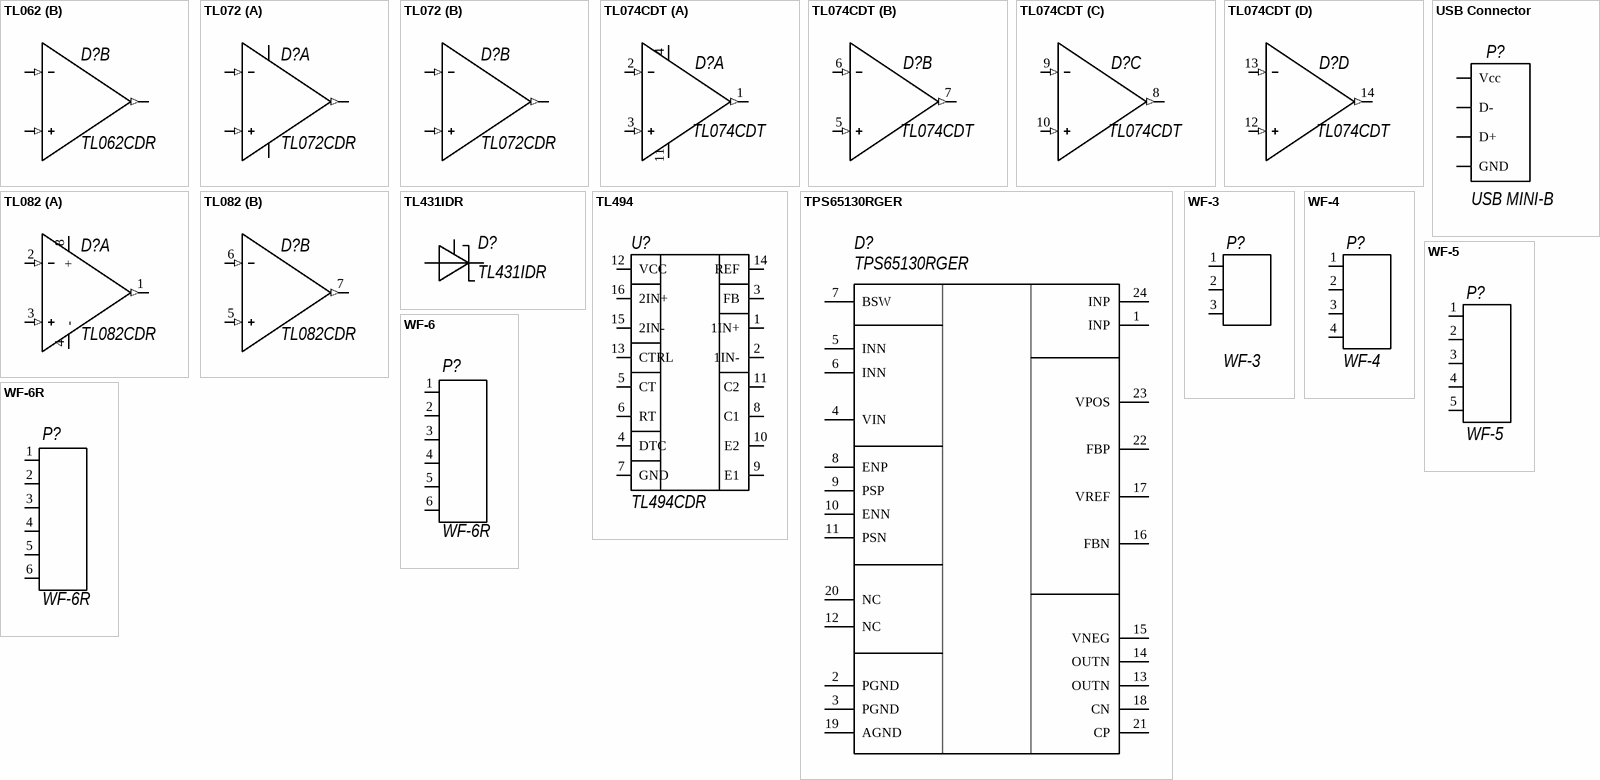
[diagram p3: symbols TL062 to WF-6R]

## TL062
designator D?, comment TL062CDR
Manufacturer: Texas Instruments; HelpURL: https://www.digikey.com/product-detail/en/texas-instruments/TL062CDR/296-1281-1-ND/276549; Case: 8SOIC; Model: TL062CDR
footprint DIP-8
footprint SOIC-8
part A pins: 1 1OUT (out), 2 1IN- (in), 3 1IN+ (in), 4 Vcc- (power), 8 Vcc+ (power)
part B pins: 5 21IN+ (in), 6 2IN- (in), 7 2OUT (out)

## TL072
designator D?, comment TL072CDR
Manufacturer: Texas Instruments; HelpURL: https://www.digikey.com/product-detail/en/texas-instruments/TL062CDR/296-1281-1-ND/276549; Case: 8SOIC; Model: TL072CDR
footprint DIP-8
footprint SOIC-8
part A pins: 1 1OUT (out), 2 1IN- (in), 3 1IN+ (in), 4 Vcc- (power), 8 Vcc+ (power)
part B pins: 5 21IN+ (in), 6 2IN- (in), 7 2OUT (out)

## TL074CDT
designator D?
Manufacturer: STMicroelectronics; HelpURL: https://www.digikey.com/product-detail/en/stmicroelectronics/TL074CDT/497-2204-2-ND/599312; Case: 14SO; Model: TL074CDT
footprint SO-14
footprint DIP-14
part A pins: 1 1OUT (out), 2 1IN- (in), 3 1IN+ (in), 4 Vcc+ (power), 11 Vcc- (power)
part B pins: 5 2IN+ (in), 6 2IN- (in), 7 2OUT (out)
part C pins: 8 3OUT (out), 9 3IN- (in), 10 3IN+ (in)
part D pins: 12 4IN+ (in), 13 4IN- (in), 14 4OUT (out)

## TL082
designator D?, comment TL082CDR
J-FET Amplifier 2 Circuit  8-SOIC; Manufacturer: Texas Instruments; HelpURL: https://www.digikey.com/product-detail/en/texas-instruments/TL082CDR/296-1284-2-ND/276927; Case: 8SOIC; Model: TL082CDR
footprint DIP-8
footprint SOIC-8
part A pins: 1 1OUT (out), 2 1IN- (in), 3 1IN+ (in), 4 - (power), 8 + (power)
part B pins: 5 21IN+ (in), 6 2IN- (in), 7 2OUT (out)

## TL431IDR
designator D?
Shunt Voltage Reference IC 36V ±2.2%  8-SOIC; Manufacturer: Texas Instruments; HelpURL: https://www.digikey.com/product-detail/en/texas-instruments/TL431IDR/296-1291-1-ND/276559; Case: 8SOIC; Model: TL431IDR
footprint SOIC-8; pin to pad A>2+3+6+7 C>1 Ref>8
pins: A, C, Ref

## TL494
designator U?, comment TL494CDR
Buck, Boost, Flyback, Forward Converter, Full-Bridge, Half-Bridge, Push-Pull Regulator Positive Output Step-Up, Step-Down, Step-Up/Step-Down  DC-DC Controller IC 16-SOIC; Manufacturer: Texas Instruments; Case: 16SOIC; Model: TL494CDR; HelpURL: https://www.digikey.com/product-detail/en/texas-instruments/TL494CDR/296-1293-2-ND/276936
footprint SOIC-16
footprint DIP-16
pins: 1 1IN+, 2 1IN-, 3 FB, 4 DTC, 5 CT, 6 RT, 7 GND, 8 C1, 9 E1, 10 E2, 11 C2, 12 VCC, 13 CTRL, 14 REF, 15 2IN-, 16 2IN+

## TPS65130RGER
designator D?
DC-DC StepUP; Manufacturer: Texas Instruments; Case: 24-VQFN; HelpURL: https://www.digikey.com/product-detail/en/texas-instruments/TPS65130RGER/296-17080-1-ND/660212; Model: TPS65130RGER
footprint 24-VQFN (4x4 mm)
pins: 1 INP (power), 2 PGND (power), 3 PGND (power), 4 VIN (power), 5 INN (power), 6 INN (power), 7 BSW (power), 8 ENP (power), 9 PSP (power), 10 ENN (power), 11 PSN (power), 12 NC (power), 13 OUTN (power), 14 OUTN (power), 15 VNEG (power), 16 FBN (power), 17 VREF (power), 18 CN (power), 19 AGND (power), 20 NC (power), 21 CP (power), 22 FBP (power), 23 VPOS (power), 24 INP (power)

## USB Connector
designator P?, comment USB MINI-B
Model: USB MINI-B
footprint USB MINI; pin to pad D+>3 D->2 GND>5 Vcc>1
pins: D+, D-, GND, Vcc

## WF-3
designator P?
HelpURL: *; Manufacturer: *; Model: WF-3
footprint WF-3
pins: 1, 2, 3

## WF-4
designator P?
HelpURL: *; Manufacturer: *; Model: WF-4
footprint WF-4
pins: 1, 2, 3, 4

## WF-5
designator P?
Manufacturer: *; Model: WF-5
footprint WF-5
pins: 1, 2, 3, 4, 5

## WF-6
designator P?, comment WF-6R
HelpURL: *; Manufacturer: *; Model: WF-6R
footprint WF-6
pins: 1, 2, 3, 4, 5, 6

## WF-6R
designator P?
HelpURL: *; Manufacturer: *; Model: WF-6R
footprint WF-6R
pins: 1, 2, 3, 4, 5, 6